# Altium footprint library audio_pcb_lib.PcbLib: 10 footprints
Each footprint in its own frame and in the unit in brackets; x right, y up, seen from the top. Pads: shape width x height; smd on the part's side, far side on the other; paste and mask are expansions set on the pad; w line width, h text height; cw(c..) or ccw(c..) is an arc to the next point about the centre after c.
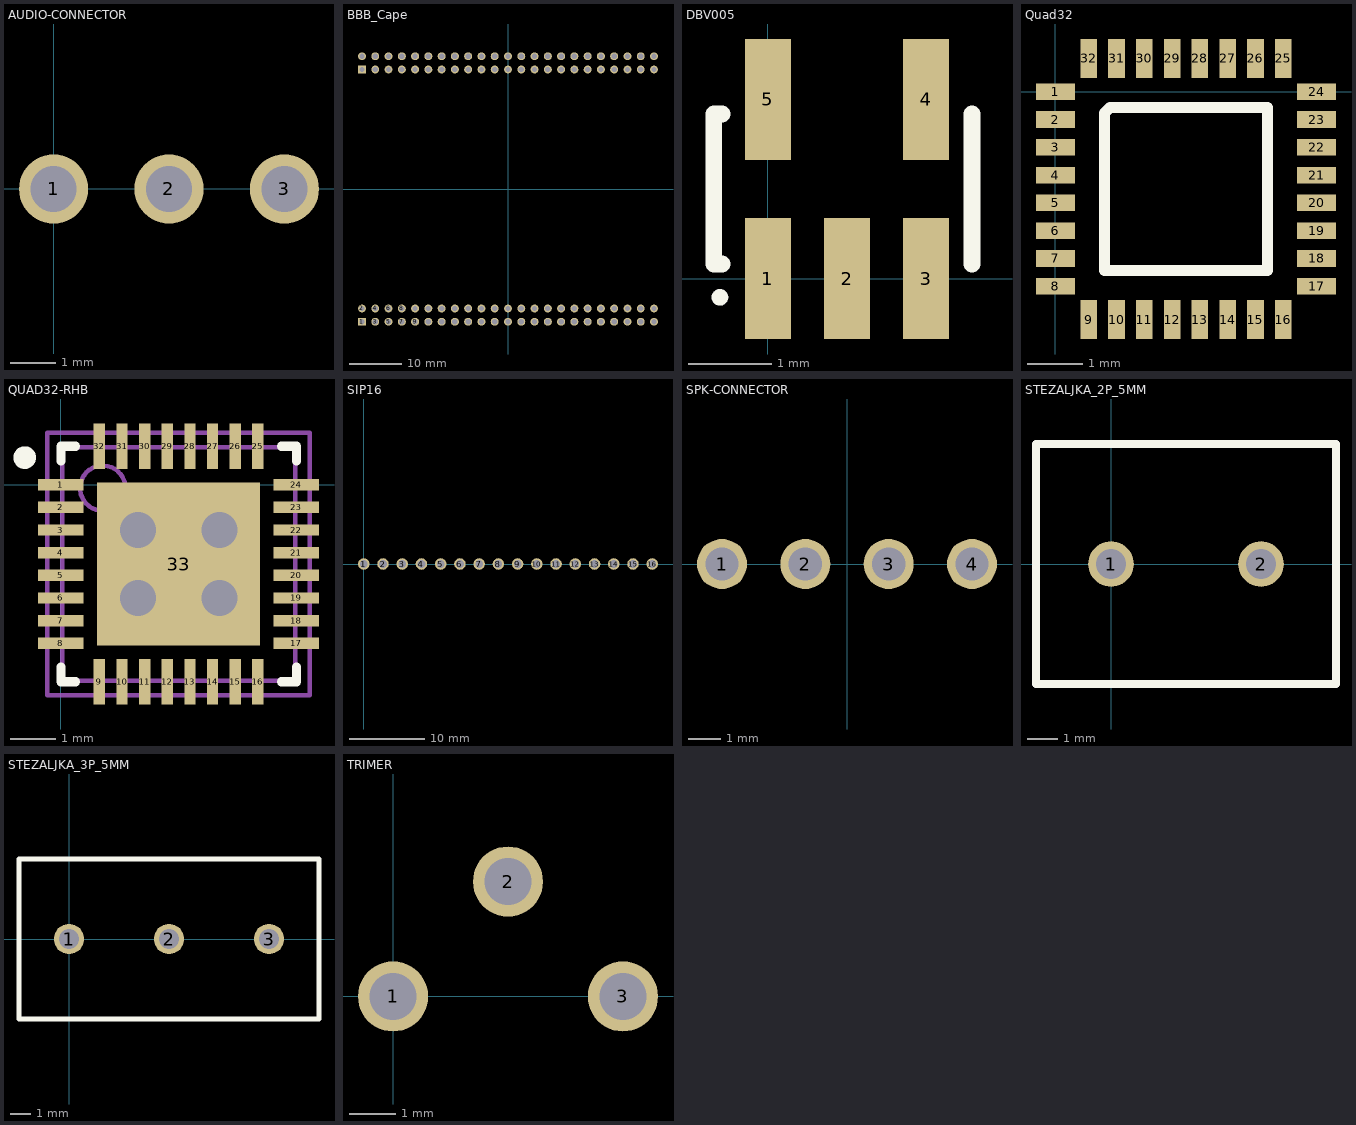
[diagram p0: the footprints below, top view; thin cyan lines are the x and y axes]

## AUDIO-CONNECTOR [mil]
pads (3):
  round 60 hole 40: 1(0,0) 2(100,0) 3(200,0)

## BBB_Cape [mil]
pads (92):
  rect 60x60 hole 40: 1(-1100,-1000) 47(-1100,900)
  round 60 hole 40: 2(-1100,-900) 3(-1000,-1000) 4(-1000,-900) 5(-900,-1000) 6(-900,-900) 7(-800,-1000) 8(-800,-900) 9(-700,-1000) 10(-700,-900) 11(-600,-1000) 12(-600,-900) 13(-500,-1000) 14(-500,-900) 15(-400,-1000) 16(-400,-900) 17(-300,-1000) 18(-300,-900) 19(-200,-1000) 20(-200,-900) 21(-100,-1000) 22(-100,-900) 23(0,-1000) 24(0,-900) 25(100,-1000) 26(100,-900) 27(200,-1000) 28(200,-900) 29(300,-1000) 30(300,-900) 31(400,-1000) 32(400,-900) 33(500,-1000) 34(500,-900) 35(600,-1000) 36(600,-900) 37(700,-1000) 38(700,-900) 39(800,-1000) 40(800,-900) 41(900,-1000) 42(900,-900) 43(1000,-1000) 44(1000,-900) 45(1100,-1000) 46(1100,-900) 48(-1100,1000) 49(-1000,900) 50(-1000,1000) 51(-900,900) 52(-900,1000) 53(-800,900) 54(-800,1000) 55(-700,900) 56(-700,1000) 57(-600,900) 58(-600,1000) 59(-500,900) 60(-500,1000) 61(-400,900) 62(-400,1000) 63(-300,900) 64(-300,1000) 65(-200,900) 66(-200,1000) 67(-100,900) 68(-100,1000) 69(0,900) 70(0,1000) 71(100,900) 72(100,1000) 73(200,900) 74(200,1000) 75(300,900) 76(300,1000) 77(400,900) 78(400,1000) 79(500,900) 80(500,1000) 81(600,900) 82(600,1000) 83(700,900) 84(700,1000) 85(800,900) 86(800,1000) 87(900,900) 88(900,1000) 89(1000,900) 90(1000,1000) 91(1100,900) 92(1100,1000)

## DBV005 [mm]
pads (5):
  rect 0.55x1.45 smd: 1(0,0) 2(0.95,0) 3(1.9,0) 4(1.9,2.15) 5(0,2.15)
Top Overlay:
  circle w0.1: c-0.575,-0.225 r0.05
  lines w0.2: -0.55,0.175 -0.65,0.175 -0.65,1.975 -0.55,1.975 ; 2.45,0.175 2.45,1.975

## Quad32 [mm]
pads (32):
  rect 0.7x0.3 smd: 1(0,0) 2(0,-0.5) 3(0,-1) 4(0,-1.5) 5(0,-2) 6(0,-2.5) 7(0,-3) 8(0,-3.5) 17(4.7,-3.5) 18(4.7,-3) 19(4.7,-2.5) 20(4.7,-2) 21(4.7,-1.5) 22(4.7,-1) 23(4.7,-0.5) 24(4.7,0)
  rect 0.3x0.7 smd: 9(0.6,-4.1) 10(1.1,-4.1) 11(1.6,-4.1) 12(2.1,-4.1) 13(2.6,-4.1) 14(3.1,-4.1) 15(3.6,-4.1) 16(4.1,-4.1) 25(4.1,0.6) 26(3.6,0.6) 27(3.1,0.6) 28(2.6,0.6) 29(2.1,0.6) 30(1.6,0.6) 31(1.1,0.6) 32(0.6,0.6)
Top Overlay:
  lines w0.2: 0.885,-3.215 3.815,-3.215 3.815,-0.285 0.985,-0.285 0.885,-0.385 0.885,-3.215

## QUAD32-RHB [mm]
pads (33):
  rect 1x0.25 smd: 1(0,0) 2(0,-0.5) 3(0,-1) 4(0,-1.5) 5(0,-2) 6(0,-2.5) 7(0,-3) 8(0,-3.5) 17(5.2,-3.5) 18(5.2,-3) 19(5.2,-2.5) 20(5.2,-2) 21(5.2,-1.5) 22(5.2,-1) 23(5.2,-0.5) 24(5.2,0)
  rect 0.25x1 smd: 9(0.85,-4.35) 10(1.35,-4.35) 11(1.85,-4.35) 12(2.35,-4.35) 13(2.85,-4.35) 14(3.35,-4.35) 15(3.85,-4.35) 16(4.35,-4.35) 25(4.35,0.85) 26(3.85,0.85) 27(3.35,0.85) 28(2.85,0.85) 29(2.35,0.85) 30(1.85,0.85) 31(1.35,0.85) 32(0.85,0.85)
  rect 3.6x3.6 smd: 33(2.6,-1.75)
via 3.5,-2.5 diameter 1 hole 0.8
via 3.5,-1 diameter 1 hole 0.8
via 1.7,-2.5 diameter 1 hole 0.8
via 1.7,-1 diameter 1 hole 0.8
Top Overlay:
  circle w0.25: c-0.8,0.6 r0.125
  lines w0.2: 0,-4.025 0,-4.35 0.325,-4.35 ; 0,0.525 0,0.85 0.325,0.85 ; 4.875,-4.35 5.2,-4.35 5.2,-4.025 ; 4.875,0.85 5.2,0.85 5.2,0.525
Mechanical 13:
  circle w0.1: c0.925,-0.075 r0.5
  lines w0.1: 0.025,-4.325 5.175,-4.325 5.175,0.825 0.025,0.825 0.025,-4.325
Mechanical 15:
  lines w0.1: 2.1,-1.75 3.1,-1.75 ; 2.6,-2.25 2.6,-1.25 ; -0.3,-4.65 5.5,-4.65 5.5,1.15 -0.3,1.15 -0.3,-4.65
3D body: height 1, standoff 0, extent 0.025,-4.325 5.175,0.825

## SIP16 [mil] "Header, 16-pin"
pads (16):
  round 60 hole 40: 1(0,0) 2(100,0) 3(200,0) 4(300,0) 5(400,0) 6(500,0) 7(600,0) 8(700,0) 9(800,0) 10(900,0) 11(1000,0) 12(1100,0) 13(1200,0) 14(1300,0) 15(1400,0) 16(1500,0)

## SPK-CONNECTOR [mil]
pads (4):
  round 60 hole 40: 1(-150,0) 2(-50,0) 3(50,0) 4(150,0)

## STEZALJKA_2P_5MM [mil] "Stezaljka za prikljuène žice, 2 pola, 5mm pitch"
pads (2):
  round 60 hole 40: 1(0,0) 2(196.85,0)
Top Overlay:
  lines w10: -98.43,-157.48 295.28,-157.48 295.28,157.48 -98.43,157.48 -98.43,0 -98.43,-157.48

## STEZALJKA_3P_5MM [mil] "Stezaljka za prikljuène žice, 3 pola, 5mm pitch"
pads (3):
  round 60 hole 40: 1(0,0) 2(196.85,0) 3(393.7,0)
Top Overlay:
  lines w10: -98.43,-157.48 492.13,-157.48 492.13,157.48 -98.43,157.48 -98.43,0 -98.43,-157.48

## TRIMER [mil]
pads (3):
  round 60 hole 40: 1(0,0) 2(98.43,98.43) 3(196.85,0)